# Altium integrated library 0402CG101J500NT.IntLib: 1 symbol
Pins are listed as number, name and electrical type; pins without a type are passive.

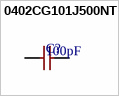
[diagram p0: symbol 0402CG101J500NT]

## 0402CG101J500NT
designator C?  value 100pF  (hidden comment: 0402CG101J500NT)
Multilayer Ceramic Capacitors MLCC - SMD/SMT. 100pF 50V C0G +/-5% 0402 Multilayer Ceramic Capacitors MLCC - SMD/SMT ROHS; Manufacturer: FH (Guangdong Fenghua Advanced Tech); Component Type: Capacitors; Design Item ID: 0402CG101J500NT; JLCPCB Part #: C1546; Manufacturer Part Number: 0402CG101J500NT
footprint 0402CG101J500NT (C0402)
pins: 1, 2